# EAGLE library part MAX30102EFD+T (library Max30102)
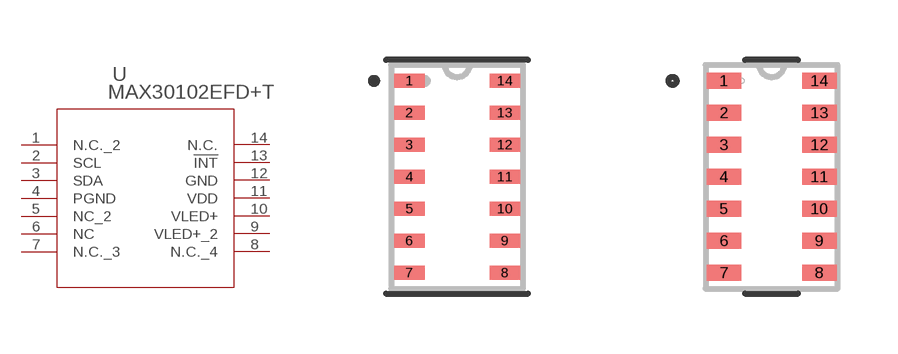
[diagram p0: symbol with the pads of 21-1048_F143A5+1_MXM; footprints 21-1048_F143A5+1_MXM, 21-1048_F143A5+1_MXM-M]

Designator prefix U

## MAX30102EFD+T21-1048_F143A5+1_MXM (Copyright: Copyright (C) 2024 Ultra Librarian. All rights reserved.; Manufacturer_Part_Number: MAX30102EFD+T; Mfr_Name: Analog Devices / Maxim Integrated)  [21-1048_F143A5+1_MXM]
1  N.C._2  nc
2  SCL  pas
3  SDA  pas
4  PGND  pas
5  NC_2  pas
6  NC  pas
7  N.C._3  nc
8  N.C._4  nc
9  VLED+_2  pas
10  VLED+  pas
11  VDD  pwr
12  GND  pas
13  !INT  pas
14  N.C.  nc

## MAX30102EFD+T21-1048_F143A5+1_MXM-M (Copyright: Copyright (C) 2024 Ultra Librarian. All rights reserved.; Manufacturer_Part_Number: MAX30102EFD+T; Mfr_Name: Analog Devices / Maxim Integrated)  [21-1048_F143A5+1_MXM-M]
Pads as for 21-1048_F143A5+1_MXM

## MAX30102EFD+T21-1048_F143A5+1_MXM-L (Copyright: Copyright (C) 2024 Ultra Librarian. All rights reserved.; Manufacturer_Part_Number: MAX30102EFD+T; Mfr_Name: Analog Devices / Maxim Integrated)  [21-1048_F143A5+1_MXM-L]
Pads as for 21-1048_F143A5+1_MXM

## Footprint 21-1048_F143A5+1_MXM (pad centres in mm)
smd 0.762 x 0.356: 1 -1.194,2.4; 2 -1.194,1.6; 3 -1.194,0.8; 4 -1.194,0; 5 -1.194,-0.8; 6 -1.194,-1.6; 7 -1.194,-2.4; 8 1.194,-2.4; 9 1.194,-1.6; 10 1.194,-0.8; 11 1.194,0; 12 1.194,0.8; 13 1.194,1.6; 14 1.194,2.4

## Footprint 21-1048_F143A5+1_MXM-M (pad centres in mm)
smd 0.864 x 0.406: 1 -1.194,2.4; 2 -1.194,1.6; 3 -1.194,0.8; 4 -1.194,0; 5 -1.194,-0.8; 6 -1.194,-1.6; 7 -1.194,-2.4; 8 1.194,-2.4; 9 1.194,-1.6; 10 1.194,-0.8; 11 1.194,0; 12 1.194,0.8; 13 1.194,1.6; 14 1.194,2.4

## Footprint 21-1048_F143A5+1_MXM-L (pad centres in mm)
smd 0.66 x 0.305: 1 -1.194,2.4; 2 -1.194,1.6; 3 -1.194,0.8; 4 -1.194,0; 5 -1.194,-0.8; 6 -1.194,-1.6; 7 -1.194,-2.4; 8 1.194,-2.4; 9 1.194,-1.6; 10 1.194,-0.8; 11 1.194,0; 12 1.194,0.8; 13 1.194,1.6; 14 1.194,2.4